# Altium schematic symbol library AMS1117-3.3.SchLib: 1 symbol
Pins are listed as number, name and electrical type; pins without a type are passive.

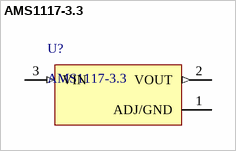
[diagram p0: symbol AMS1117-3.3]

## AMS1117-3.3
designator U?
IC REG LINEAR 3.3V 1A SOT-223-3L; Manufacturer: UMW(Youtai Semiconductor Co., Ltd.); Supplier: DigiKey; Supplier Part Number: 4518-AMS1117-3.3TR-ND; Manufacturer Part Number: AMS1117-3.3; Category: LDO Voltage Regulators; Stock: 20000; Pricing: 2500=0.1247, 5000=0.12082, 7500=0.11888, 12500=0.11673, 17500=0.11547, 25000=0.11426 (USD)
footprint SOT229P700X180-4N-3.3
pins: 1 ADJ/GND (power), 2 VOUT (out), 3 VIN (in)